# Altium footprint library ELEC(10.0X10.5)-AV.PcbLib: 1 footprints
Each footprint in its own frame and in the unit in brackets; x right, y up, seen from the top. Pads: shape width x height; smd on the part's side, far side on the other; paste and mask are expansions set on the pad; w line width, h text height; cw(c..) or ccw(c..) is an arc to the next point about the centre after c.
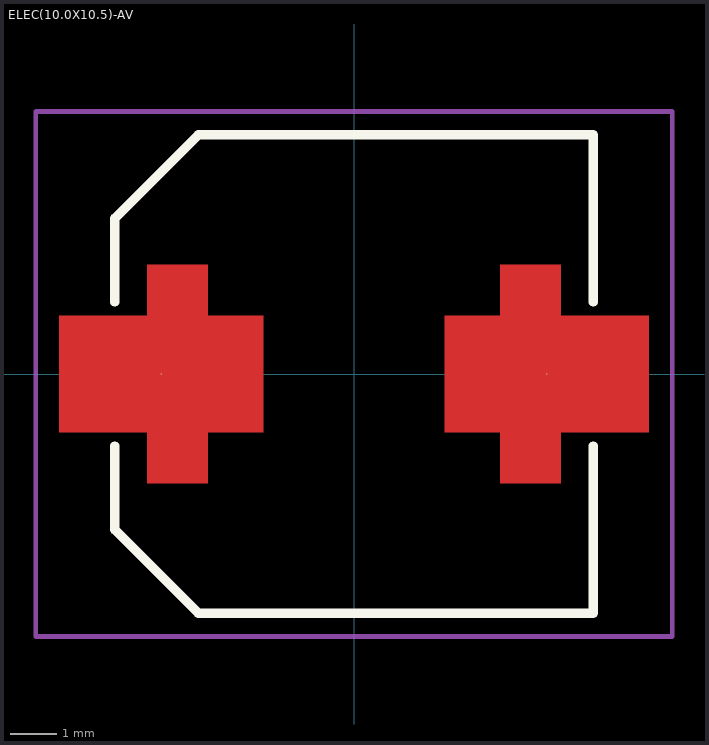
[diagram p0: the footprint, top view; thin cyan lines are the x and y axes]

## ELEC(10.0X10.5)-AV [mil]
height 413.39
pads (2):
  round 1 smd: 1(-163.39,0) 2(163.39,0)
Top Layer:
  region: 124.02,49.21 76.77,49.21 76.77,-49.21 124.02,-49.21 124.02,-92.52 175.2,-92.52 175.2,-49.21 250,-49.21 250,49.21 175.2,49.21 175.2,92.52 124.02,92.52
  region: -124.02,49.21 -76.77,49.21 -76.77,-49.21 -124.02,-49.21 -124.02,-92.52 -175.2,-92.52 -175.2,-49.21 -250,-49.21 -250,49.21 -175.2,49.21 -175.2,92.52 -124.02,92.52
Top Overlay:
  lines w7.87: -202.76,-61.02 -202.76,-131.89 -131.89,-202.76 202.76,-202.76 202.76,-61.02 ; -202.76,61.02 -202.76,131.89 -131.89,202.76 202.76,202.76 202.76,61.02
Top Courtyard:
  lines w3.94: -269.69,-49.21 -269.69,-222.44 ; -230.31,-222.44 -269.69,-222.44 ; 230.31,222.44 269.69,222.44 ; 269.69,49.21 269.69,222.44 ; -269.69,-222.44 269.69,-222.44 269.69,222.44 ; -269.69,-222.44 -269.69,222.44 269.69,222.44
3D body "step_temp.STEP": height 417.36, standoff 3.94, extent -230.31,-202.76 230.31,202.76